# Altium footprint library Gelnar.PcbLib: 295 footprints (part 19 of 19)
Each footprint in its own frame and in the unit in brackets; x right, y up, seen from the top. Pads: shape width x height; smd on the part's side, far side on the other; paste and mask are expansions set on the pad; w line width, h text height; cw(c..) or ccw(c..) is an arc to the next point about the centre after c.
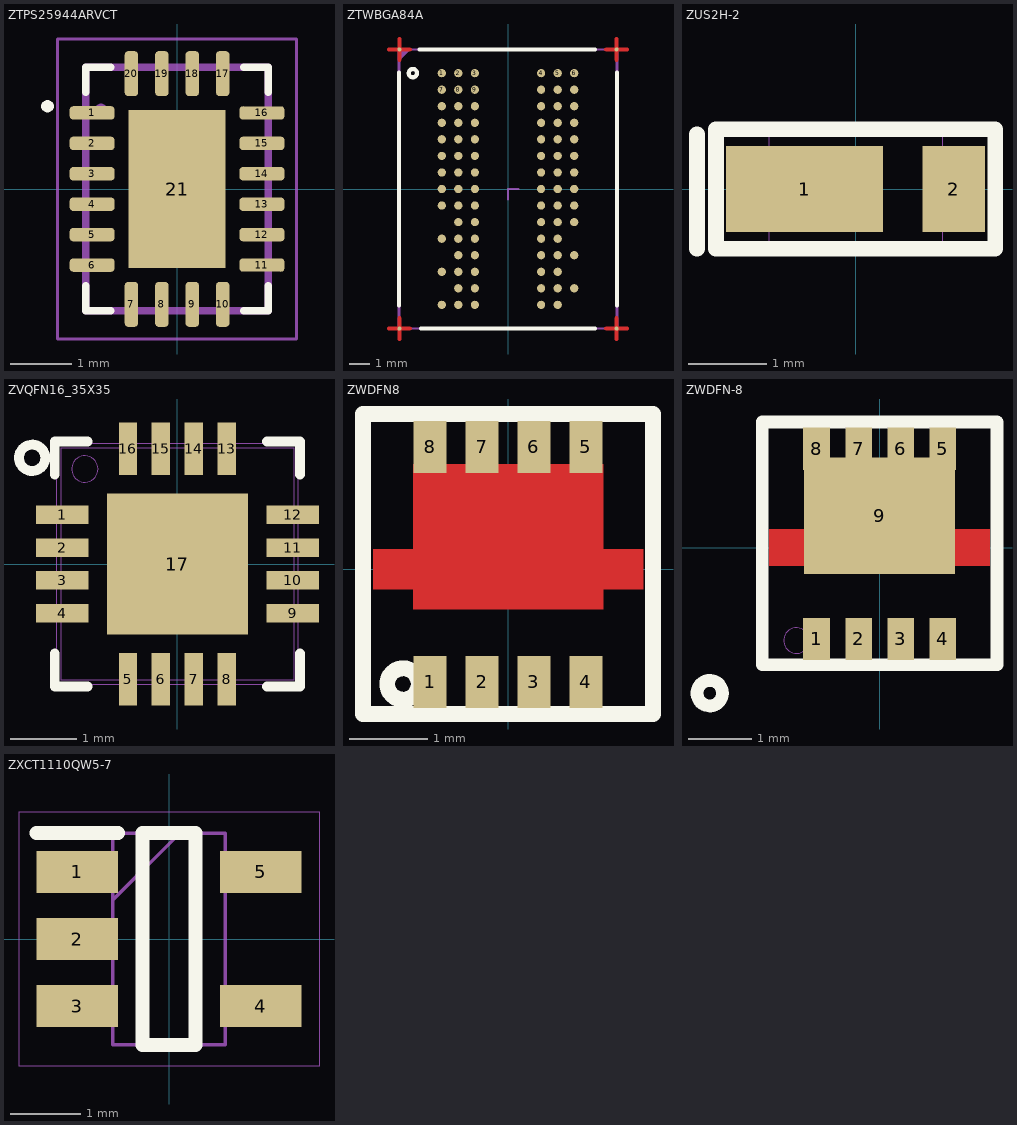
[diagram p18: the footprints below, top view; thin cyan lines are the x and y axes]

## ZTPS25944ARVCT [mm]
height 8
pads (21):
  rrect53% 0.74x0.22 smd: 1(-1.395,1.25) 2(-1.395,0.75) 3(-1.395,0.25) 4(-1.395,-0.25) 5(-1.395,-0.75) 6(-1.395,-1.25)
  rrect53% 0.22x0.74 smd: 7(-0.75,-1.895) 8(-0.25,-1.895) 9(0.25,-1.895) 10(0.75,-1.895) 17(0.75,1.895) 18(0.25,1.895) 19(-0.25,1.895) 20(-0.75,1.895)
  rrect53% 0.74x0.22 smd rot 179.99: 11(1.395,-1.25) 12(1.395,-0.75) 13(1.395,-0.25) 14(1.395,0.25) 15(1.395,0.75) 16(1.395,1.25)
  rect 1.6x2.6 smd: 21(0,0)
Top Overlay:
  region: -2.03,1.36 -2.03,1.38 -2.045,1.417 -2.073,1.445 -2.11,1.46 -2.13,1.46 -2.15,1.46 -2.187,1.445 -2.215,1.417 -2.23,1.38 -2.23,1.36 -2.23,1.34 -2.215,1.303 -2.187,1.275 -2.15,1.26 -2.13,1.26 -2.11,1.26 -2.073,1.275 -2.045,1.303 -2.03,1.34
  lines w0.127: -1.5,-1.595 -1.5,-2 -1.095,-2 ; -1.5,1.595 -1.5,2 -1.095,2 ; 1.095,-2 1.5,-2 1.5,-1.595 ; 1.095,2 1.5,2 1.5,1.595
Top Paste:
  region: 0.095,1.105 0.605,1.105 0.605,0.095 0.095,0.095
  region: 0.095,-0.095 0.605,-0.095 0.605,-1.106 0.095,-1.106
  region: -0.605,-0.095 -0.095,-0.095 -0.095,-1.105 -0.605,-1.105
  region: -0.606,1.105 -0.095,1.105 -0.095,0.095 -0.606,0.095
Mechanical 15:
  region: -1.15,1.3 -1.15,1.32 -1.165,1.357 -1.193,1.385 -1.23,1.4 -1.25,1.4 -1.27,1.4 -1.307,1.385 -1.335,1.357 -1.35,1.32 -1.35,1.3 -1.35,1.28 -1.335,1.243 -1.307,1.215 -1.27,1.2 -1.25,1.2 -1.23,1.2 -1.193,1.215 -1.165,1.243 -1.15,1.28
  lines w0.127: -1.5,-2 1.5,-2 1.5,2 -1.5,2 -1.5,-2
Mechanical 20:
  lines w0.05: -1.965,-2.465 -1.965,2.465 1.965,2.465 1.965,-2.465 -1.965,-2.465

## ZTWBGA84A [mm]
height 1.6
pads (88):
  round 0.4 smd paste-0.03 mask+0.05: 1(-3.2,5.6) 2(-2.4,5.6) 3(-1.6,5.6) 4(1.6,5.6) 5(2.4,5.6) 6(3.2,5.6) 7(-3.2,4.8) 8(-2.4,4.8) 9(-1.6,4.8) 10(1.6,4.8) 11(2.4,4.8) 12(3.2,4.8) 13(-3.2,4) 14(-2.4,4) 15(-1.6,4) 16(1.6,4) 17(2.4,4) 18(3.2,4) 19(-3.2,3.2) 20(-2.4,3.2) 21(-1.6,3.2) 22(1.6,3.2) 23(2.4,3.2) 24(3.2,3.2) 25(-3.2,2.4) 26(-2.4,2.4) 27(-1.6,2.4) 28(1.6,2.4) 29(2.4,2.4) 30(3.2,2.4) 31(-3.2,1.6) 32(-2.4,1.6) 33(-1.6,1.6) 34(1.6,1.6) 35(2.4,1.6) 36(3.2,1.6) 37(-3.2,0.8) 38(-2.4,0.8) 39(-1.6,0.8) 40(1.6,0.8) 41(2.4,0.8) 42(3.2,0.8) 43(-3.2,0) 44(-2.4,0) 45(-1.6,0) 46(1.6,0) 47(2.4,0) 48(3.2,0) 49(-3.2,-0.8) 50(-2.4,-0.8) 51(-1.6,-0.8) 52(1.6,-0.8) 53(2.4,-0.8) 54(3.2,-0.8) 55(-2.4,-1.6) 56(-1.6,-1.6) 57(1.6,-1.6) 58(2.4,-1.6) 59(3.2,-1.6) 60(-3.2,-2.4) 61(-2.4,-2.4) 62(-1.6,-2.4) 63(1.6,-2.4) 64(2.4,-2.4) 65(-2.4,-3.2) 66(-1.6,-3.2) 67(1.6,-3.2) 68(2.4,-3.2) 69(3.2,-3.2) 70(-3.2,-4) 71(-2.4,-4) 72(-1.6,-4) 73(1.6,-4) 74(2.4,-4) 75(-2.4,-4.8) 76(-1.6,-4.8) 77(1.6,-4.8) 78(2.4,-4.8) 79(3.2,-4.8) 80(-3.2,-5.6) 81(-2.4,-5.6) 82(-1.6,-5.6) 83(1.6,-5.6) 84(2.4,-5.6)
  round 0.2 smd mask+0.05: 85(-5.25,6.75) 86(5.25,6.75) 87(-5.25,-6.75) 88(5.25,-6.75)
L1-Top Layer:
  lines w0.2: -5.75,-6.75 -4.75,-6.75 ; -5.75,6.75 -4.75,6.75 ; -5.25,-7.25 -5.25,-6.25 ; -5.25,6.25 -5.25,7.25 ; 4.75,-6.75 5.75,-6.75 ; 4.75,6.75 5.75,6.75 ; 5.25,-7.25 5.25,-6.25 ; 5.25,6.25 5.25,7.25
Top Overlay:
  circle w0.2: c-4.6,5.6 r0.2
  lines w0.2: -5.264,-5.634 -5.264,5.634 ; -4.275,6.736 4.212,6.736 ; -4.212,-6.736 4.212,-6.736 ; 5.264,-5.634 5.264,5.634
Top Solder:
  lines w0.3: -5.75,-6.75 -4.75,-6.75 ; -5.75,6.75 -4.75,6.75 ; -5.25,-7.25 -5.25,-6.25 ; -5.25,6.25 -5.25,7.25 ; 4.75,-6.75 5.75,-6.75 ; 4.75,6.75 5.75,6.75 ; 5.25,-7.25 5.25,-6.25 ; 5.25,6.25 5.25,7.25
Mechanical 15:
  lines w0.1: -5.3,6.2 -4.8,6.7 ; -5.3,6.3 -4.9,6.7 ; -5.3,6.4 -5,6.7 ; -5.3,6.5 -5.1,6.7 ; -5.3,6.6 -5.2,6.7 ; -5.25,-6.75 5.25,-6.75 5.25,6.75 -5.25,6.75 -5.25,-6.75
Mechanical 19:
  lines w0.1: 0,-0.508 0,0 0.508,0
Mechanical 20:
  lines w0.1: -5.3,-6.736 5.3,-6.736 5.3,6.736 -5.3,6.736 -5.3,-6.736

## ZUS2H-2 [mm]
pads (2):
  rect 2x1.1 smd mask+0.05: 1(-0.65,0)
  rect 0.8x1.1 smd mask+0.05: 2(1.25,0)
Top Overlay:
  lines w0.2: -2.021,-0.762 -2.021,0.699 ; -1.778,-0.762 1.778,-0.762 1.778,0.762 -1.778,0.762 -1.778,-0.762
Mechanical 15:
  lines w0.01: -1.1,-0.75 1.1,-0.75 1.1,0.75 -1.1,0.75 -1.1,-0.75
Multi-Layer:
  text "Value" at -1.299,-1.777 h0.75
Mechanical 20:
  lines w0.01: -1.778,-0.762 1.778,-0.762 1.778,0.762 -1.778,0.762 -1.778,-0.762

## ZVQFN16_35X35 [mm]
pads (17):
  rect 0.8x0.28 smd paste-0.02 mask+0.035: 1(-1.75,0.75) 2(-1.75,0.25) 3(-1.75,-0.25) 4(-1.75,-0.75) 9(1.75,-0.75) 10(1.75,-0.25) 11(1.75,0.25) 12(1.75,0.75)
  rect 0.28x0.8 smd paste-0.02 mask+0.035: 5(-0.75,-1.75) 6(-0.25,-1.75) 7(0.25,-1.75) 8(0.75,-1.75) 13(0.75,1.75) 14(0.25,1.75) 15(-0.25,1.75) 16(-0.75,1.75)
  rect 2.14x2.14 smd paste-0.1 mask+0.05: 17(0,0)
Top Overlay:
  circle w0.15: c-2.204,1.612 r0.2
  lines w0.15: -1.861,-1.361 -1.861,-1.861 -1.361,-1.861 ; -1.861,1.361 -1.861,1.861 -1.361,1.861 ; 1.361,-1.861 1.861,-1.861 1.861,-1.361 ; 1.361,1.861 1.861,1.861 1.861,1.361
Mechanical 15:
  circle w0.01: c-1.404,1.443 r0.2
  lines w0.01: -1.764,-1.764 1.764,-1.764 1.764,1.764 -1.764,1.764 -1.764,-1.764
Mechanical 20:
  lines w0.01: -1.83,-1.83 1.83,-1.83 1.83,1.83 -1.83,1.83 -1.83,-1.83

## ZWDFN8 [mm]
height 1.75
pads (8):
  rect 0.42x0.66 smd paste-0.049 mask+0.05: 1(-0.99,-1.435) 2(-0.33,-1.435) 3(0.33,-1.435) 4(0.99,-1.435) 5(0.99,1.55)
  rect 0.42x0.66 smd paste-0.05 mask+0.05: 6(0.33,1.55) 7(-0.33,1.55) 8(-0.99,1.55)
L1-Top Layer:
  region: -1.206,0.254 -1.206,1.333 1.206,1.333 1.206,0.254 1.714,0.254 1.714,-0.254 1.206,-0.254 1.206,-0.508 -1.206,-0.508 -1.206,-0.254 -1.714,-0.254 -1.714,0.254
Top Overlay:
  circle w0.2: c-1.333,-1.46 r0.2
  lines w0.2: -1.841,-1.841 -1.841,1.968 1.841,1.968 1.841,-1.841 -1.841,-1.841
Top Paste:
  region: -1.206,1.333 1.206,1.333 1.206,-0.508 -1.206,-0.508
  lines w0.1: -1.27,-0.572 1.27,-0.572 1.27,1.333 -1.27,1.333 -1.27,-0.572
  lines w0.2: -1.143,-0.318 1.143,-0.318 1.143,1.079 -1.143,1.079 -1.143,-0.318
Top Solder:
  region: -1.206,1.333 1.206,1.333 1.206,-0.508 -1.206,-0.508
  region: -1.714,0.318 1.778,0.318 1.778,-0.254 -1.714,-0.254
  lines w0.1: -1.27,-0.572 1.27,-0.572 1.27,1.079 -1.27,1.079 -1.27,-0.572
Mechanical 15:
  circle w0.01: c-1.305,-1.46 r0.2
  lines w0.01: -1.778,-1.778 -1.778,1.905 1.778,1.905 1.778,-1.778 -1.778,-1.778
Mechanical 20:
  lines w0.01: -1.841,-1.841 -1.841,1.968 1.841,1.968 1.841,-1.841 -1.841,-1.841

## ZWDFN-8 [mm]
height 1.75
pads (9):
  rect 0.42x0.66 smd paste-0.049 mask+0.05: 1(-0.99,-1.435) 2(-0.33,-1.435) 3(0.33,-1.435) 4(0.99,-1.435) 5(0.99,1.55)
  rect 0.42x0.66 smd paste-0.05 mask+0.05: 6(0.33,1.55) 7(-0.33,1.55) 8(-0.99,1.55)
  rect 2.37x1.83 smd paste-0.178 mask+0.05: 9(0,0.5)
L1-Top Layer:
  region: -1.73,0.285 1.73,0.285 1.73,-0.285 -1.73,-0.285
Top Overlay:
  circle w0.2: c-2.667,-2.286 r0.2
  lines w0.2: -1.841,-1.841 -1.841,1.968 1.841,1.968 1.841,-1.841 -1.841,-1.841
Mechanical 15:
  circle w0.01: c-1.305,-1.46 r0.2
  lines w0.01: -1.778,-1.778 -1.778,1.905 1.778,1.905 1.778,-1.778 -1.778,-1.778
Multi-Layer:
  text "Value" at 1.396,-1.127 h0.75
Mechanical 20:
  lines w0.01: -1.841,-1.841 -1.841,1.968 1.841,1.968 1.841,-1.841 -1.841,-1.841

## ZXCT1110QW5-7 [mm]
height 1
pads (5):
  rect 1.15x0.6 smd mask+0.05: 1(-1.3,0.95) 2(-1.3,0) 3(-1.3,-0.95) 4(1.3,-0.95) 5(1.3,0.95)
Top Overlay:
  lines w0.2: -1.875,1.5 -0.725,1.5 ; -0.375,-1.5 0.375,-1.5 0.375,1.5 -0.375,1.5 -0.375,-1.5
Mechanical 15:
  lines w0.05: -0.8,0.55 0.15,1.5 ; -0.8,-1.5 0.8,-1.5 0.8,1.5 -0.8,1.5 -0.8,-1.5
Mechanical 20:
  lines w0.01: -2.125,-1.8 2.125,-1.8 2.125,1.8 -2.125,1.8 -2.125,-1.8